# Altium footprint library SIZE_E.PcbLib: 1 footprints
Each footprint in its own frame and in the unit in brackets; x right, y up, seen from the top. Pads: shape width x height; smd on the part's side, far side on the other; paste and mask are expansions set on the pad; w line width, h text height; cw(c..) or ccw(c..) is an arc to the next point about the centre after c.
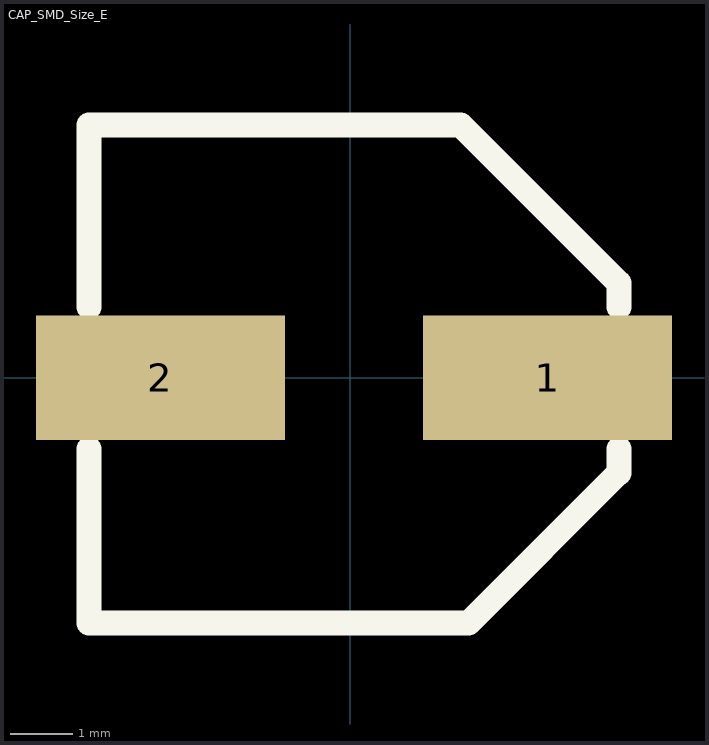
[diagram p0: the footprint, top view; thin cyan lines are the x and y axes]

## CAP_SMD_Size_E [mm]
pads (2):
  rect 4x2 smd: 1(3.175,0) 2(-3.048,0)
Top Overlay:
  lines w0.254: 4.318,1.46 4.318,1.524
  lines w0.4: -4.191,-1.143 -4.191,-3.937 1.905,-3.937 4.318,-1.524 4.318,-1.143 ; -4.191,1.143 -4.191,4.064 1.778,4.064 4.318,1.524 ; 4.318,1.143 4.318,1.46
3D body "50K 53503 100 SMD.STEP": height 10.59, standoff 0.89, extent -4.25,-4 4.25,4